# Altium footprint library Generic Devices.PcbLib: 33 footprints (part 2 of 3)
Each footprint in its own frame and in the unit in brackets; x right, y up, seen from the top. Pads: shape width x height; smd on the part's side, far side on the other; paste and mask are expansions set on the pad; w line width, h text height; cw(c..) or ccw(c..) is an arc to the next point about the centre after c.
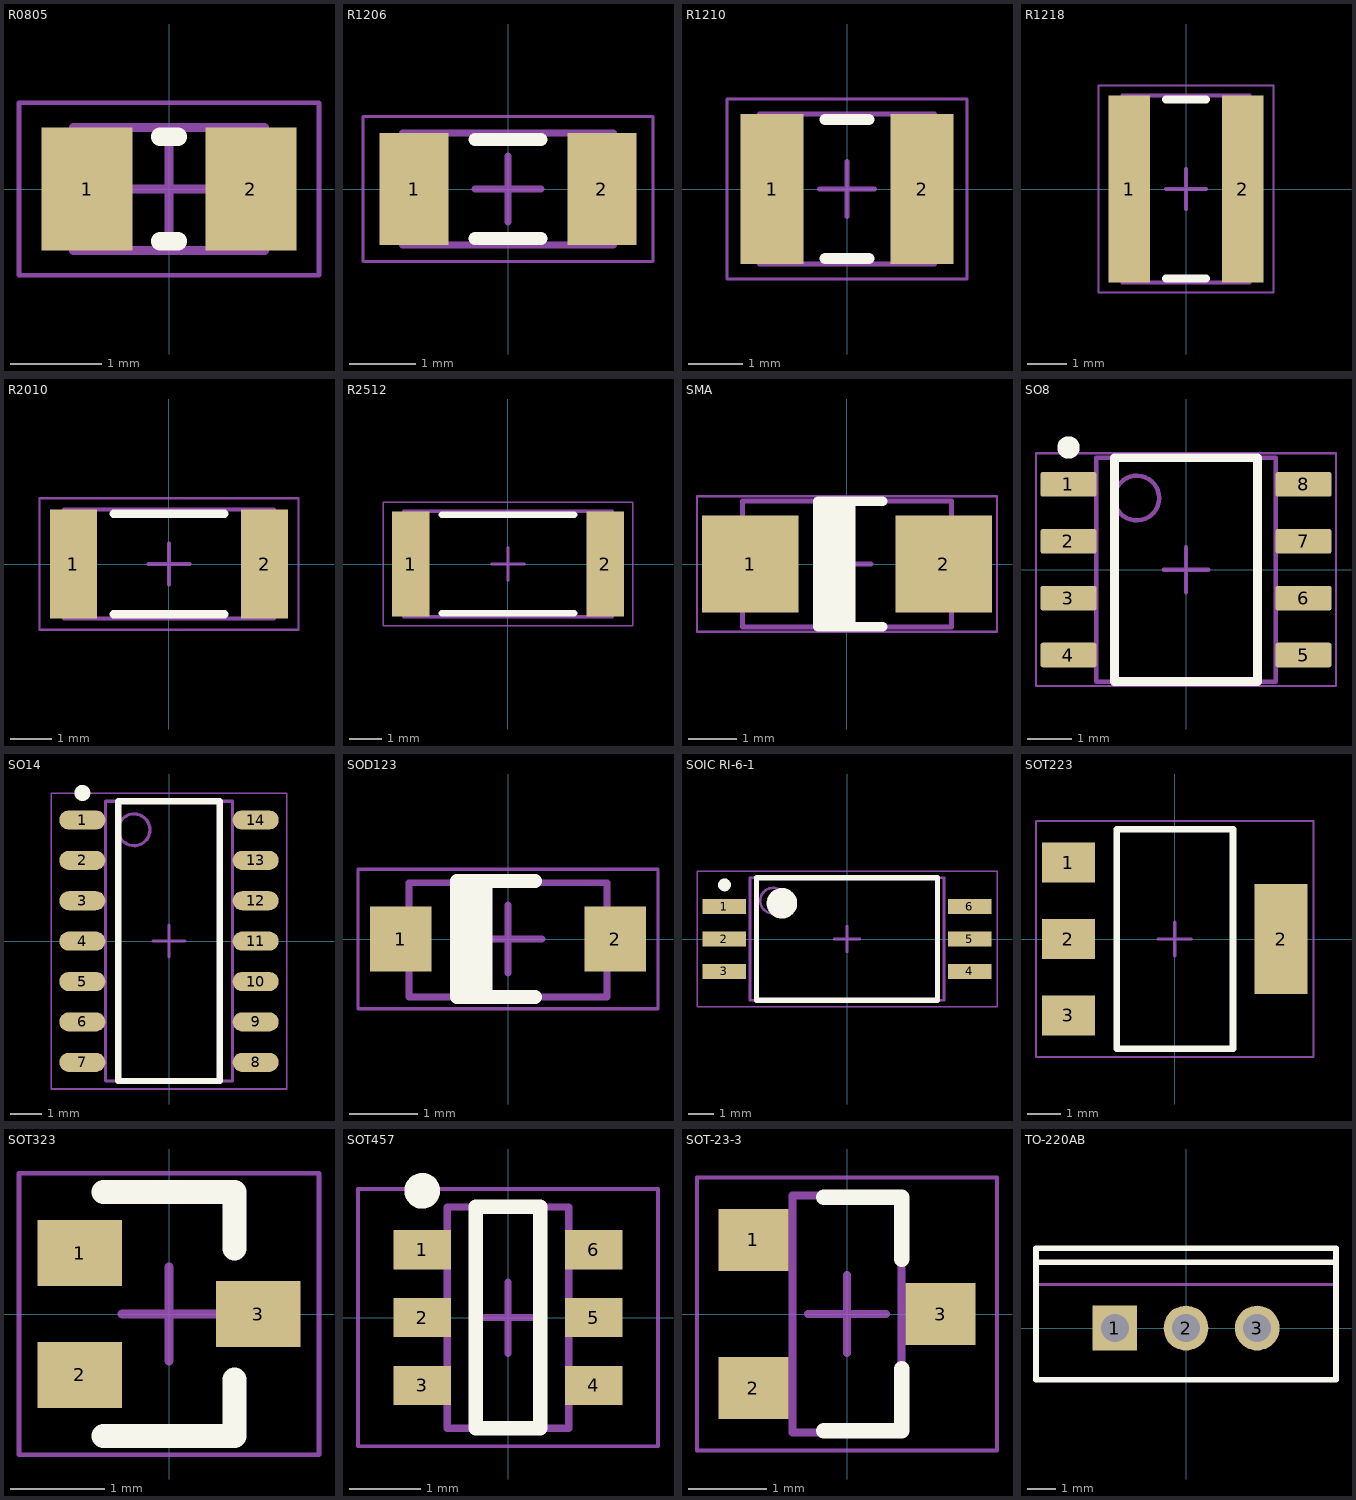
[diagram p1: the footprints below, top view; thin cyan lines are the x and y axes]

## R0805 [mm] "Chip Resistor, 2-Leads, 0805, IPC Medium Density"
height 0.6
pads (2):
  rect 1x1.35 smd: 1(-0.9,0) 2(0.9,0)
Top Overlay:
  lines w0.2: -0.1,-0.575 0.1,-0.575 ; -0.1,0.575 0.1,0.575
Mechanical 13:
  lines w0.1: -1.05,-0.675 1.05,-0.675 1.05,0.675 -1.05,0.675 -1.05,-0.675
Mechanical 15:
  lines w0.05: -1.65,-0.95 1.65,-0.95 1.65,0.95 -1.65,0.95 -1.65,-0.95
  lines w0.1: -0.5,0 0.5,0 ; 0,-0.5 0,0.5
3D body: height 0.6, standoff 0, extent 0.7,-0.675 1.05,0.675
3D body: height 0.6, standoff 0, extent -1.05,-0.675 -0.7,0.675
3D body: height 0.6, standoff 0, extent -0.7,-0.675 0.7,0.675

## R1206 [mm] "Chip Resistor, 2-Leads, 1206, IPC Medium Density"
height 0.65
pads (2):
  rect 1.05x1.7 smd: 1(-1.425,0) 2(1.425,0)
Top Overlay:
  lines w0.2: -0.5,-0.75 0.5,-0.75 ; -0.5,0.75 0.5,0.75
Mechanical 13:
  lines w0.1: -1.6,-0.85 -1.6,0.85 1.6,0.85 1.6,-0.85 -1.6,-0.85
Mechanical 15:
  lines w0.05: -2.2,-1.1 -2.2,1.1 2.2,1.1 2.2,-1.1 -2.2,-1.1
  lines w0.1: -0.5,0 0.5,0 ; 0,-0.5 0,0.5
3D body: height 0.65, standoff 0, extent -1.2,-0.85 1.2,0.85
3D body: height 0.65, standoff 0, extent -1.6,-0.85 -1.2,0.85
3D body: height 0.65, standoff 0, extent 1.2,-0.85 1.6,0.85

## R1210 [mm] "Chip Resistor, 2-Leads, 1210, IPC Medium Density"
height 0.65
pads (2):
  rect 1.15x2.75 smd: 1(-1.375,0) 2(1.375,0)
Top Overlay:
  lines w0.2: -0.4,-1.275 0.4,-1.275 ; -0.4,1.275 0.4,1.275
Mechanical 13:
  lines w0.1: -1.6,-1.375 1.6,-1.375 1.6,1.375 -1.6,1.375 -1.6,-1.375
Mechanical 15:
  lines w0.05: -2.2,-1.65 2.2,-1.65 2.2,1.65 -2.2,1.65 -2.2,-1.65
  lines w0.1: -0.5,0 0.5,0 ; 0,-0.5 0,0.5
3D body: height 0.65, standoff 0, extent 1.1,-1.375 1.6,1.375
3D body: height 0.65, standoff 0, extent -1.6,-1.375 -1.1,1.375
3D body: height 0.65, standoff 0, extent -1.1,-1.375 1.1,1.375

## R1218 [mm] "Chip Resistor, 2-Leads, 1218, IPC Medium Density"
height 0.65
pads (2):
  rect 1.05x4.7 smd: 1(-1.425,0) 2(1.425,0)
Top Overlay:
  lines w0.2: -0.5,-2.25 0.5,-2.25 ; -0.5,2.25 0.5,2.25
Mechanical 13:
  lines w0.1: -1.6,-2.35 1.6,-2.35 1.6,2.35 -1.6,2.35 -1.6,-2.35
Mechanical 15:
  lines w0.05: -2.2,-2.6 2.2,-2.6 2.2,2.6 -2.2,2.6 -2.2,-2.6
  lines w0.1: -0.5,0 0.5,0 ; 0,-0.5 0,0.5
3D body: height 0.65, standoff 0, extent 1.2,-2.35 1.6,2.35
3D body: height 0.65, standoff 0, extent -1.6,-2.35 -1.2,2.35
3D body: height 0.65, standoff 0, extent -1.2,-2.35 1.2,2.35

## R2010 [mm] "Chip Resistor, 2-Leads, 2010, IPC Medium Density"
height 0.65
pads (2):
  rect 1.15x2.65 smd: 1(-2.325,0) 2(2.325,0)
Top Overlay:
  lines w0.2: -1.35,-1.225 1.35,-1.225 ; -1.35,1.225 1.35,1.225
Mechanical 13:
  lines w0.1: -2.55,-1.325 -2.55,1.325 2.55,1.325 2.55,-1.325 -2.55,-1.325
Mechanical 15:
  lines w0.05: -3.15,-1.6 -3.15,1.6 3.15,1.6 3.15,-1.6 -3.15,-1.6
  lines w0.1: -0.5,0 0.5,0 ; 0,-0.5 0,0.5
3D body: height 0.65, standoff 0, extent -2.05,-1.325 2.05,1.325
3D body: height 0.65, standoff 0, extent -2.55,-1.325 -2.05,1.325
3D body: height 0.65, standoff 0, extent 2.05,-1.325 2.55,1.325

## R2512 [mm] "Chip Resistor, 2-Leads, 2512, IPC Medium Density"
height 0.65
pads (2):
  rect 1.15x3.25 smd: 1(-3,0) 2(3,0)
Top Overlay:
  lines w0.2: -2.05,-1.525 2.05,-1.525 ; -2.05,1.525 2.05,1.525
Mechanical 13:
  lines w0.1: -3.225,-1.625 -3.225,1.625 3.225,1.625 3.225,-1.625 -3.225,-1.625
Mechanical 15:
  lines w0.05: -3.85,-1.9 -3.85,1.9 3.85,1.9 3.85,-1.9 -3.85,-1.9
  lines w0.1: -0.5,0 0.5,0 ; 0,-0.5 0,0.5
3D body: height 0.65, standoff 0, extent -2.725,-1.625 2.725,1.625
3D body: height 0.65, standoff 0, extent -3.225,-1.625 -2.725,1.625
3D body: height 0.65, standoff 0, extent 2.725,-1.625 3.225,1.625

## SMA [mm] "Molded, 2-Leads, Body 4.57x2.92mm"
height 2.2
pads (2):
  rect 2x2 smd: 1(-2,0) 2(2,0)
Top Overlay:
  rectangle: -0.6,-1.3 0.178,1.3
  lines w0.2: 0.735,-1.3 -0.6,-1.3 -0.6,1.3 0.735,1.3
Mechanical 13:
  lines w0.1: -2.16,-1.3 2.16,-1.3 2.16,1.3 -2.16,1.3 -2.16,-1.3
Mechanical 15:
  lines w0.05: -3.1,-1.4 -3.1,1.4 3.1,1.4 3.1,-1.4 -3.1,-1.4
  lines w0.1: -0.5,0 0.5,0 ; 0,-0.5 0,0.5
3D body: height 2.2, standoff 0.05, extent -2.16,-1.3 2.16,1.3

## SO8 [mm] "SOIC, 8-Leads, Body 5x4mm, Pitch 1.27mm, IPC High Density"
height 1.75
pads (8):
  rrect18% 1.25x0.55 smd: 1(-2.625,1.905) 2(-2.625,0.635) 3(-2.625,-0.635) 4(-2.625,-1.905) 5(2.625,-1.905) 6(2.625,-0.635) 7(2.625,0.635) 8(2.625,1.905)
Top Overlay:
  circle w0.25: c-2.625,2.73 r0.125
  lines w0.2: -1.6,-2.5 1.6,-2.5 1.6,2.5 -1.6,2.5 -1.6,-2.5
Mechanical 1:
  text ".Designator" at -1.397,-0.254 h0.6
Mechanical 13:
  circle w0.1: c-1.1,1.6 r0.5
  lines w0.1: -2,-2.5 2,-2.5 2,2.5 -2,2.5 -2,-2.5
Mechanical 15:
  lines w0.05: -3.35,-2.6 3.35,-2.6 3.35,2.6 -3.35,2.6 -3.35,-2.6
  lines w0.1: -0.5,0 0.5,0 ; 0,-0.5 0,0.5
3D body "SOIC-8akaD0008AakaM08A.stp": height 1.63, standoff 0, extent -3,-2.45 3,2.45

## SO14 [mm] "SOIC, 14-Leads, Body 8.65x3.90mm, Pitch 1.27mm, IPC Medium Density"
height 1.75
pads (14):
  oval 1.45x0.6 smd: 1(-2.725,3.81) 2(-2.725,2.54) 3(-2.725,1.27) 4(-2.725,0) 5(-2.725,-1.27) 6(-2.725,-2.54) 7(-2.725,-3.81) 8(2.725,-3.81) 9(2.725,-2.54) 10(2.725,-1.27) 11(2.725,0) 12(2.725,1.27) 13(2.725,2.54) 14(2.725,3.81)
Top Overlay:
  circle w0.25: c-2.725,4.66 r0.125
  lines w0.2: -1.6,-4.4 -1.6,4.4 1.6,4.4 1.6,-4.4 -1.6,-4.4
Mechanical 13:
  circle w0.1: c-1.1,3.5 r0.5
  lines w0.1: -2,-4.4 -2,4.4 2,4.4 2,-4.4 -2,-4.4
Mechanical 15:
  lines w0.05: -3.7,-4.65 -3.7,4.65 3.7,4.65 3.7,-4.65 -3.7,-4.65
  lines w0.1: -0.5,0 0.5,0 ; 0,-0.5 0,0.5
3D body: height 1.75, standoff 0.1, extent -2,-4.4 2,4.4

## SOD123 [mm] "Molded, 2-Leads, Body 2.65x1.55mm"
height 2.2
pads (2):
  rect 0.9x0.95 smd: 1(-1.575,0) 2(1.575,0)
Top Overlay:
  rectangle: -0.75,-0.85 -0.225,0.85
  lines w0.2: 0.4,-0.85 -0.75,-0.85 -0.75,0.85 0.4,0.85
Mechanical 13:
  lines w0.1: -1.45,-0.85 -1.45,0.825 1.45,0.825 1.45,-0.85 -1.45,-0.85
Mechanical 15:
  lines w0.05: -2.2,-1.025 2.2,-1.025 2.2,1.025 -2.2,1.025 -2.2,-1.025
  lines w0.1: -0.5,0 0.5,0 ; 0,-0.5 0,0.5
3D body: height 1.1, standoff 0.05, extent -1.45,-0.85 1.45,0.85

## SOIC RI-6-1 [mm] "SOIC, 6-Leads, Wide Body 4.58x7.50mm, Pitch 1.27mm, IPC Medium Density"
height 2.65
pads (6):
  rect 1.7x0.6 smd: 1(-4.8,1.27) 2(-4.8,0) 3(-4.8,-1.27) 4(4.8,-1.27) 5(4.8,0) 6(4.8,1.27)
Top Overlay:
  circle w0.6: c-2.55,1.4 r0.3
  circle w0.25: c-4.8,2.12 r0.125
  lines w0.2: -3.55,-2.4 3.55,-2.4 3.55,2.4 -3.55,2.4 -3.55,-2.4
Mechanical 13:
  circle w0.1: c-2.9,1.5 r0.5
  lines w0.1: -3.8,-2.4 3.8,-2.4 3.8,2.4 -3.8,2.4 -3.8,-2.4
Mechanical 15:
  lines w0.05: -5.875,-2.65 5.875,-2.65 5.875,2.65 -5.875,2.65 -5.875,-2.65
  lines w0.1: -0.5,0 0.5,0 ; 0,-0.5 0,0.5
3D body "SOIC127P1030X265-6N.step": height 2.65, standoff 0, extent -5.155,-2.4 5.155,2.4

## SOT223 [mm] "SOT223, 4-Leads, Body 6.50x7.00mm (avg), Pitch 2.30mm, IPC Medium Density"
height 1.65
pads (4):
  rect 1.6x1.2 smd: 1(-3.2,2.3) 2(-3.2,0) 3(-3.2,-2.3)
  rect 1.6x3.3 smd: 2(3.2,0)
Top Overlay:
  lines w0.2: -1.75,-3.3 1.75,-3.3 1.75,3.3 -1.75,3.3 -1.75,-3.3
Mechanical 13:
  lines w0.1: -1.775,-3.275 1.775,-3.275 1.775,3.275 -1.775,3.275 -1.775,-3.275
Mechanical 15:
  lines w0.05: -4.175,-3.55 4.175,-3.55 4.175,3.55 -4.175,3.55 -4.175,-3.55
  lines w0.1: -0.5,0 0.5,0 ; 0,-0.5 0,0.5
3D body: height 1.65, standoff 0.01, extent -1.775,-3.275 1.775,3.275

## SOT323 [mm] "SOT323"
height 1.65
pads (3):
  rect 0.9x0.7 smd: 1(-0.95,0.65) 2(-0.95,-0.65) 3(0.95,0)
Top Overlay:
  lines w0.254: -0.7,-1.3 0.7,-1.3 0.7,-0.7 ; -0.7,1.3 0.7,1.3 0.7,1.1 0.7,0.7
Mechanical 13:
  lines w0.1: -0.7,-1.3 0.7,-1.3 0.7,-0.7 ; -0.7,1.3 0.7,1.3 0.7,0.7
Mechanical 15:
  lines w0.05: -1.6,-1.5 1.6,-1.5 1.6,1.5 -1.6,1.5 -1.6,-1.5
  lines w0.1: -0.5,0 0.5,0 ; 0,-0.5 0,0.5
3D body: height 1.1, standoff 0.1, extent -0.7,-1.1 0.7,1.1

## SOT457 [mm] "SOT23, 6-Leads, Body 2.90x2.75mm, Pitch 0.95mm, IPC Medium Density"
height 1.1
pads (6):
  rect 0.8x0.55 smd: 1(-1.2,0.95) 2(-1.2,0) 3(-1.2,-0.95) 4(1.2,-0.95) 5(1.2,0) 6(1.2,0.95)
Top Overlay:
  circle w0.25: c-1.2,1.775 r0.125
  lines w0.2: -0.45,-1.55 0.45,-1.55 0.45,1.55 -0.45,1.55 -0.45,-1.55
Mechanical 13:
  lines w0.1: -0.85,-1.55 -0.85,1.55 0.85,1.55 0.85,-1.55 -0.85,-1.55
Mechanical 15:
  lines w0.05: -2.1,-1.8 -2.1,1.8 2.1,1.8 2.1,-1.8 -2.1,-1.8
  lines w0.1: -0.5,0 0.5,0 ; 0,-0.5 0,0.5
3D body: height 1.1, standoff 0, extent -0.85,-1.55 0.85,1.55

## SOT-23-3 [mm] "SOT23, 3-Leads, Body 2.92x2.37mm, Pitch 0.95mm, IPC Medium Density"
height 1.11
pads (3):
  rect 0.9x0.8 smd: 1(-1.2,0.95) 2(-1.2,-0.95) 3(1.2,0)
Top Overlay:
  lines w0.2: -0.3,-1.5 0.7,-1.5 0.7,-0.7 ; -0.3,1.5 0.7,1.5 0.7,0.7
Mechanical 13:
  lines w0.1: -0.7,-1.52 -0.7,1.52 0.7,1.52 0.7,-1.52 -0.7,-1.52
Mechanical 15:
  lines w0.05: -1.925,-1.75 -1.925,1.75 1.925,1.75 1.925,-1.75 -1.925,-1.75
  lines w0.1: -0.5,0 0.5,0 ; 0,-0.5 0,0.5
3D body "SOT-23.step": height 1.11, standoff 0, extent -1.32,-1.52 1.32,1.52

## TO-220AB [mm] "TO, Thru-Hole, Vertical, Heatsink Mounted; 3 In-Line Leads; Pitch 2.54 mm"
height 19.3
pads (3):
  rect 1.6x1.6 hole 1: 1(-2.54,0)
  round 1.6 hole 1: 2(0,0) 3(2.54,0)
Top Overlay:
  lines w0.2: -5.35,2.35 5.35,2.35 ; -5.35,-1.85 5.35,-1.85 5.35,2.85 -5.35,2.85 -5.35,-1.85
Mechanical 13:
  lines w0.1: -5.35,1.55 5.35,1.55 ; -5.35,-1.85 -5.35,2.85 5.35,2.85 5.35,-1.85 -5.35,-1.85
Mechanical 15:
  lines w0.1: -0.5,0 0.5,0 ; 0,-0.5 0,0.5
3D body: height 19.3, standoff 12.9, extent -5.349,1.551 5.349,2.849
3D body: height 12.9, standoff 4, extent -5.4,-1.9 5.4,2.9